# Altium footprint library PcbLib2.PcbLib: 3 footprints
Each footprint in its own frame and in the unit in brackets; x right, y up, seen from the top. Pads: shape width x height; smd on the part's side, far side on the other; paste and mask are expansions set on the pad; w line width, h text height; cw(c..) or ccw(c..) is an arc to the next point about the centre after c.
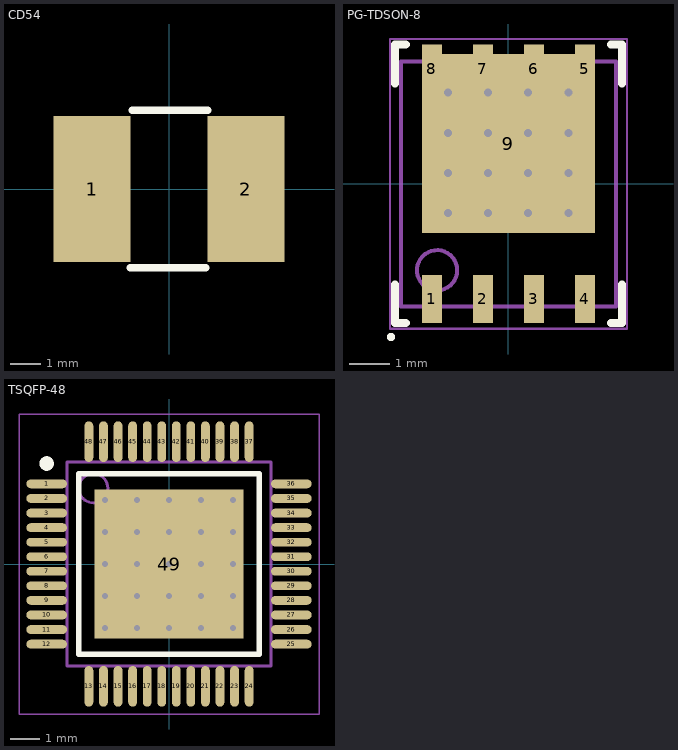
[diagram p0: the footprints below, top view; thin cyan lines are the x and y axes]

## CD54 [mil]
pads (2):
  rect 100x190 smd: 1(-100,0) 2(100,0)
Top Overlay:
  lines w10: -50,-102.36 47.64,-102.36 ; -47.64,102.36 50,102.36
3D body "User Library-CD54.step": height 177.17, standoff 0, extent -117.92,-102.36 115,102.36

## PG-TDSON-8 [mm] "SON, 8-Leads, Body 5.07x5.90mm, Pitch 1.27mm, Thermal Pad 4.15x3.87mm, IPC Medium Density"
height 1.2
pads (9):
  rect 0.5x1.2 smd: 1(-1.905,-2.863) 2(-0.635,-2.863) 3(0.635,-2.863) 4(1.905,-2.863) 5(1.905,2.863) 6(0.635,2.863) 7(-0.635,2.863) 8(-1.905,2.863)
  rect 4.3x4.455 smd paste-1.935: 9(0,1)
via -1.508,-0.73 diameter 0.5 hole 0.2
via -1.508,0.27 diameter 0.5 hole 0.2
via -1.508,1.27 diameter 0.5 hole 0.2
via -1.508,2.27 diameter 0.5 hole 0.2
via -0.508,-0.73 diameter 0.5 hole 0.2
via -0.508,0.27 diameter 0.5 hole 0.2
via -0.508,1.27 diameter 0.5 hole 0.2
via -0.508,2.27 diameter 0.5 hole 0.2
via 0.492,-0.73 diameter 0.5 hole 0.2
via 0.492,0.27 diameter 0.5 hole 0.2
via 0.492,1.27 diameter 0.5 hole 0.2
via 0.492,2.27 diameter 0.5 hole 0.2
via 1.492,-0.73 diameter 0.5 hole 0.2
via 1.492,0.27 diameter 0.5 hole 0.2
via 1.492,1.27 diameter 0.5 hole 0.2
via 1.492,2.27 diameter 0.5 hole 0.2
Top Overlay:
  circle w0.1: c-2.921,-3.81 r0.05
  lines w0.2: -2.825,-2.5 -2.825,-3.465 -2.555,-3.465 ; -2.825,2.5 -2.825,3.465 -2.555,3.465 ; 2.555,-3.465 2.825,-3.465 2.825,-2.5 ; 2.555,3.465 2.825,3.465 2.825,2.5
Mechanical 13:
  circle w0.1: c-1.775,-2.15 r0.5
  lines w0.1: -2.675,-3.05 2.675,-3.05 2.675,3.05 -2.675,3.05 -2.675,-3.05
Mechanical 15:
  lines w0.05: -2.95,-3.605 2.95,-3.605 2.95,3.605 -2.95,3.605 -2.95,-3.605
  lines w0.1: -0.508,0.77 0.492,0.77 ; -0.008,0.27 -0.008,1.27
3D body "PG-TDSON-8.step": height 1.2, standoff 0, extent -2.675,-3.4 2.675,3.4

## TSQFP-48 [mm] "TSQFP, 48-Leads, Body 7.00x7.00mm, Pitch 0.50mm, Thermal Pad 5.10x5.10mm, IPC Medium Density"
height 1.2
pads (49):
  oval 1.4x0.3 smd: 1(-4.2,2.75) 2(-4.2,2.25) 3(-4.2,1.75) 4(-4.2,1.25) 5(-4.2,0.75) 6(-4.2,0.25) 7(-4.2,-0.25) 8(-4.2,-0.75) 9(-4.2,-1.25) 10(-4.2,-1.75) 11(-4.2,-2.25) 12(-4.2,-2.75) 25(4.2,-2.75) 26(4.2,-2.25) 27(4.2,-1.75) 28(4.2,-1.25) 29(4.2,-0.75) 30(4.2,-0.25) 31(4.2,0.25) 32(4.2,0.75) 33(4.2,1.25) 34(4.2,1.75) 35(4.2,2.25) 36(4.2,2.75)
  oval 0.3x1.4 smd: 13(-2.75,-4.2) 14(-2.25,-4.2) 15(-1.75,-4.2) 16(-1.25,-4.2) 17(-0.75,-4.2) 18(-0.25,-4.2) 19(0.25,-4.2) 20(0.75,-4.2) 21(1.25,-4.2) 22(1.75,-4.2) 23(2.25,-4.2) 24(2.75,-4.2) 37(2.75,4.2) 38(2.25,4.2) 39(1.75,4.2) 40(1.25,4.2) 41(0.75,4.2) 42(0.25,4.2) 43(-0.25,4.2) 44(-0.75,4.2) 45(-1.25,4.2) 46(-1.75,4.2) 47(-2.25,4.2) 48(-2.75,4.2)
  rect 5.1x5.1 smd: 49(0,0)
via 2.2,-2.2 diameter 0.5 hole 0.2
via 1.1,-2.2 diameter 0.5 hole 0.2
via 0,-2.2 diameter 0.5 hole 0.2
via -1.1,-2.2 diameter 0.5 hole 0.2
via -2.2,-2.2 diameter 0.5 hole 0.2
via 2.2,-1.1 diameter 0.5 hole 0.2
via 1.1,-1.1 diameter 0.5 hole 0.2
via 0,-1.1 diameter 0.5 hole 0.2
via -1.1,-1.1 diameter 0.5 hole 0.2
via -2.2,-1.1 diameter 0.5 hole 0.2
via 2.2,0 diameter 0.5 hole 0.2
via 1.1,0 diameter 0.5 hole 0.2
via 0,0 diameter 0.5 hole 0.2
via -1.1,0 diameter 0.5 hole 0.2
via -2.2,0 diameter 0.5 hole 0.2
via 2.2,1.1 diameter 0.5 hole 0.2
via 1.1,1.1 diameter 0.5 hole 0.2
via 0,1.1 diameter 0.5 hole 0.2
via -1.1,1.1 diameter 0.5 hole 0.2
via -2.2,1.1 diameter 0.5 hole 0.2
via 2.2,2.2 diameter 0.5 hole 0.2
via 1.1,2.2 diameter 0.5 hole 0.2
via 0,2.2 diameter 0.5 hole 0.2
via -1.1,2.2 diameter 0.5 hole 0.2
via -2.2,2.2 diameter 0.5 hole 0.2
Top Overlay:
  circle w0.25: c-4.2,3.45 r0.125
  lines w0.2: -3.1,-3.1 3.1,-3.1 3.1,3.1 -3.1,3.1 -3.1,-3.1
Mechanical 13:
  circle w0.1: c-2.6,2.6 r0.5
  lines w0.1: -3.5,-3.5 3.5,-3.5 3.5,3.5 -3.5,3.5 -3.5,-3.5
Mechanical 15:
  lines w0.05: -5.15,-5.15 5.15,-5.15 5.15,5.15 -5.15,5.15 -5.15,-5.15
  lines w0.1: -0.5,0 0.5,0 ; 0,-0.5 0,0.5
3D body "TSQFP-48.step": height 1.2, standoff 0, extent -4.5,-4.5 4.5,4.5